# Altium footprint library MHDR1X27.PcbLib: 1 footprints
Each footprint in its own frame and in the unit in brackets; x right, y up, seen from the top. Pads: shape width x height; smd on the part's side, far side on the other; paste and mask are expansions set on the pad; w line width, h text height; cw(c..) or ccw(c..) is an arc to the next point about the centre after c.
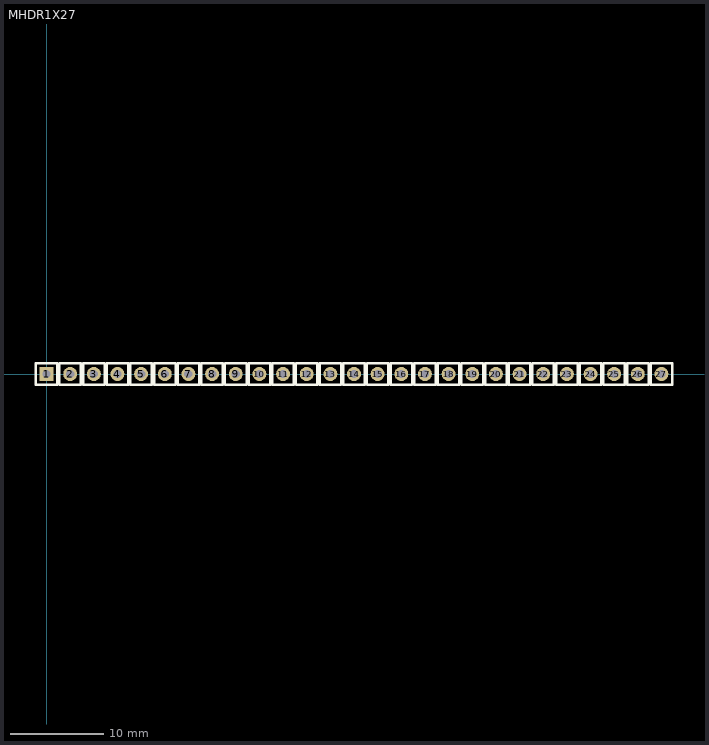
[diagram p0: the footprint, top view; thin cyan lines are the x and y axes]

## MHDR1X27 [mm]
pads (27):
  rect 1.5x1.5 hole 0.9: 1(0,0)
  round 1.5 hole 0.9: 2(2.54,0) 3(5.08,0) 4(7.62,0) 5(10.16,0) 6(12.7,0) 7(15.24,0) 8(17.78,0) 9(20.32,0) 10(22.86,0) 11(25.4,0) 12(27.94,0) 13(30.48,0) 14(33.02,0) 15(35.56,0) 16(38.1,0) 17(40.64,0) 18(43.18,0) 19(45.72,0) 20(48.26,0) 21(50.8,0) 22(53.34,0) 23(55.88,0) 24(58.42,0) 25(60.96,0) 26(63.5,0) 27(66.04,0)
Top Overlay:
  lines w0.254: -1.15,-1.15 1.15,-1.15 1.15,1.15 -1.15,1.15 -1.15,-1.15 ; 1.39,-1.15 3.69,-1.15 3.69,1.15 1.39,1.15 1.39,-1.15 ; 3.93,-1.15 6.23,-1.15 6.23,1.15 3.93,1.15 3.93,-1.15 ; 6.47,-1.15 8.77,-1.15 8.77,1.15 6.47,1.15 6.47,-1.15 ; 9.01,-1.15 11.31,-1.15 11.31,1.15 9.01,1.15 9.01,-1.15 ; 11.55,-1.15 13.85,-1.15 13.85,1.15 11.55,1.15 11.55,-1.15 ; 14.09,-1.15 16.39,-1.15 16.39,1.15 14.09,1.15 14.09,-1.15 ; 16.63,-1.15 18.93,-1.15 18.93,1.15 16.63,1.15 16.63,-1.15 ; 19.17,-1.15 21.47,-1.15 21.47,1.15 19.17,1.15 19.17,-1.15 ; 21.71,-1.15 24.01,-1.15 24.01,1.15 21.71,1.15 21.71,-1.15 ; 24.25,-1.15 26.55,-1.15 26.55,1.15 24.25,1.15 24.25,-1.15 ; 26.79,-1.15 29.09,-1.15 29.09,1.15 26.79,1.15 26.79,-1.15 ; 29.33,-1.15 31.63,-1.15 31.63,1.15 29.33,1.15 29.33,-1.15 ; 31.87,-1.15 34.17,-1.15 34.17,1.15 31.87,1.15 31.87,-1.15 ; 34.41,-1.15 36.71,-1.15 36.71,1.15 34.41,1.15 34.41,-1.15 ; 36.95,-1.15 39.25,-1.15 39.25,1.15 36.95,1.15 36.95,-1.15 ; 39.49,-1.15 41.79,-1.15 41.79,1.15 39.49,1.15 39.49,-1.15 ; 42.03,-1.15 44.33,-1.15 44.33,1.15 42.03,1.15 42.03,-1.15 ; 44.57,-1.15 46.87,-1.15 46.87,1.15 44.57,1.15 44.57,-1.15 ; 47.11,-1.15 49.41,-1.15 49.41,1.15 47.11,1.15 47.11,-1.15 ; 49.65,-1.15 51.95,-1.15 51.95,1.15 49.65,1.15 49.65,-1.15 ; 52.19,-1.15 54.49,-1.15 54.49,1.15 52.19,1.15 52.19,-1.15 ; 54.73,-1.15 57.03,-1.15 57.03,1.15 54.73,1.15 54.73,-1.15 ; 57.27,-1.15 59.57,-1.15 59.57,1.15 57.27,1.15 57.27,-1.15 ; 59.81,-1.15 62.11,-1.15 62.11,1.15 59.81,1.15 59.81,-1.15 ; 62.35,-1.15 64.65,-1.15 64.65,1.15 62.35,1.15 62.35,-1.15 ; 64.89,-1.15 67.19,-1.15 67.19,1.15 64.89,1.15 64.89,-1.15